# Altium schematic symbol library Sensors.SchLib: 8 symbols
Pins are listed as number, name and electrical type; pins without a type are passive.

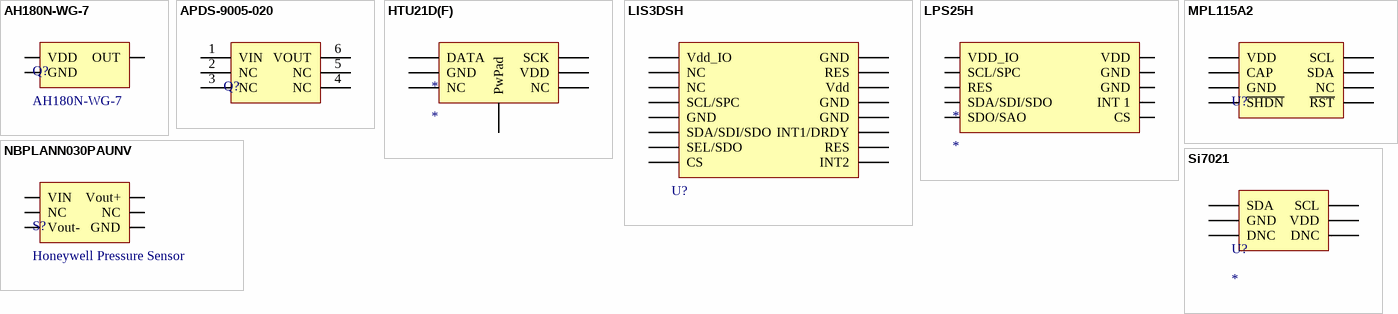
[diagram p0: symbols AH180N-WG-7 to Si7021]

## AH180N-WG-7
designator Q?
Hall Effect Sensor
footprint AH180N-WG-7 (Hall Effect Sensor)
pins: 1 VDD, 2 GND, 3 OUT

## APDS-9005-020
designator Q?  (value not drawn)
Ambient Light Sensor
footprint APDS-9005-020 (6 Pin Ambient Light Sensor)
pins: 1 VIN, 2 NC, 3 NC, 4 NC, 5 NC, 6 VOUT

## HTU21D(F)
designator *
footprint HTU21D (6 Pin DFN)
pins: 1 DATA, 2 GND, 3 NC, 4 NC, 5 VDD, 6 SCK, 7 PwPad

## LIS3DSH
designator U?  (value not drawn)
3D Accelerometer
footprint LIS3DSH (LGA-16 (3x3x1))
pins: 1 Vdd_IO, 2 NC, 3 NC, 4 SCL/SPC, 5 GND, 6 SDA/SDI/SDO, 7 SEL/SDO, 8 CS, 9 INT2, 10 RES, 11 INT1/DRDY, 12 GND, 13 GND, 14 Vdd, 15 RES, 16 GND

## LPS25H
designator *
pins: 1 VDD_IO, 2 SCL/SPC, 3 RES, 4 SDA/SDI/SDO, 5 SDO/SAO, 6 CS, 7 INT 1, 8 GND, 9 GND, 10 VDD

## MPL115A2
designator U?  (value not drawn)
Barometer
footprint MPL115A2 (8-TLGA)
pins: 1 VDD, 2 CAP, 3 GND, 4 ~{SHDN}, 5 ~{RST}, 6 NC, 7 SDA, 8 SCL

## NBPLANN030PAUNV
designator S?, comment Honeywell Pressure Sensor
30 PSI Pressure Sensor
footprint NBP SMT Series (Pressure Sensor)
pins: 1 VIN, 2 NC, 3 Vout-, 4 GND, 5 NC, 6 Vout+

## Si7021
designator U?
Si7021 Humidity Sensor
footprint QFN100P285X285X121_HS-7N (QFN, 6-Leads, Body 2.85x2.85mm, Pitch 1.00mm, Thermal Pad 1.50x2.40mm, IPC Medium Density)
pins: 1 SDA, 2 GND, 3 DNC, 4 DNC, 5 VDD, 6 SCL